# EAGLE library part 1-1445055-0 (library con-amp)
Micro MATE-N-LOK Connectors grid 1.5 mm Source: ENG_CD_1445055_A.pdf
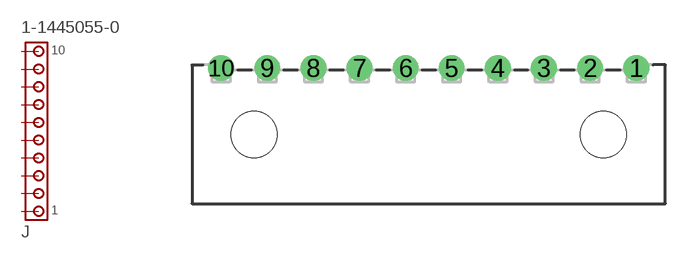
[diagram p138: symbol with the pads of 1445055-10; footprint 1445055-10]

Designator prefix J

## 1-1445055-0  [1445055-10]
1  1  pas
2  2  pas
3  3  pas
4  4  pas
5  5  pas
6  6  pas
7  7  pas
8  8  pas
9  9  pas
10  10  pas

## Footprint 1445055-10 (pad centres in mm)
Micro MATE-N-LOK Connectors grid 3.0 mm Source: ENG_CD_1445055_A.pdf
drill 1 pad 1.676: 1 13.5,4.32; 2 10.5,4.32; 3 7.5,4.32; 4 4.5,4.32; 5 1.5,4.32; 6 -1.5,4.32; 7 -4.5,4.32; 8 -7.5,4.32; 9 -10.5,4.32; 10 -13.5,4.32
hole 3 at -11.35,0
hole 3 at 11.35,0